# Altium footprint library LARS_409_DIODE.PCBLIB: 11 footprints
Each footprint in its own frame and in the unit in brackets; x right, y up, seen from the top. Pads: shape width x height; smd on the part's side, far side on the other; paste and mask are expansions set on the pad; w line width, h text height; cw(c..) or ccw(c..) is an arc to the next point about the centre after c.
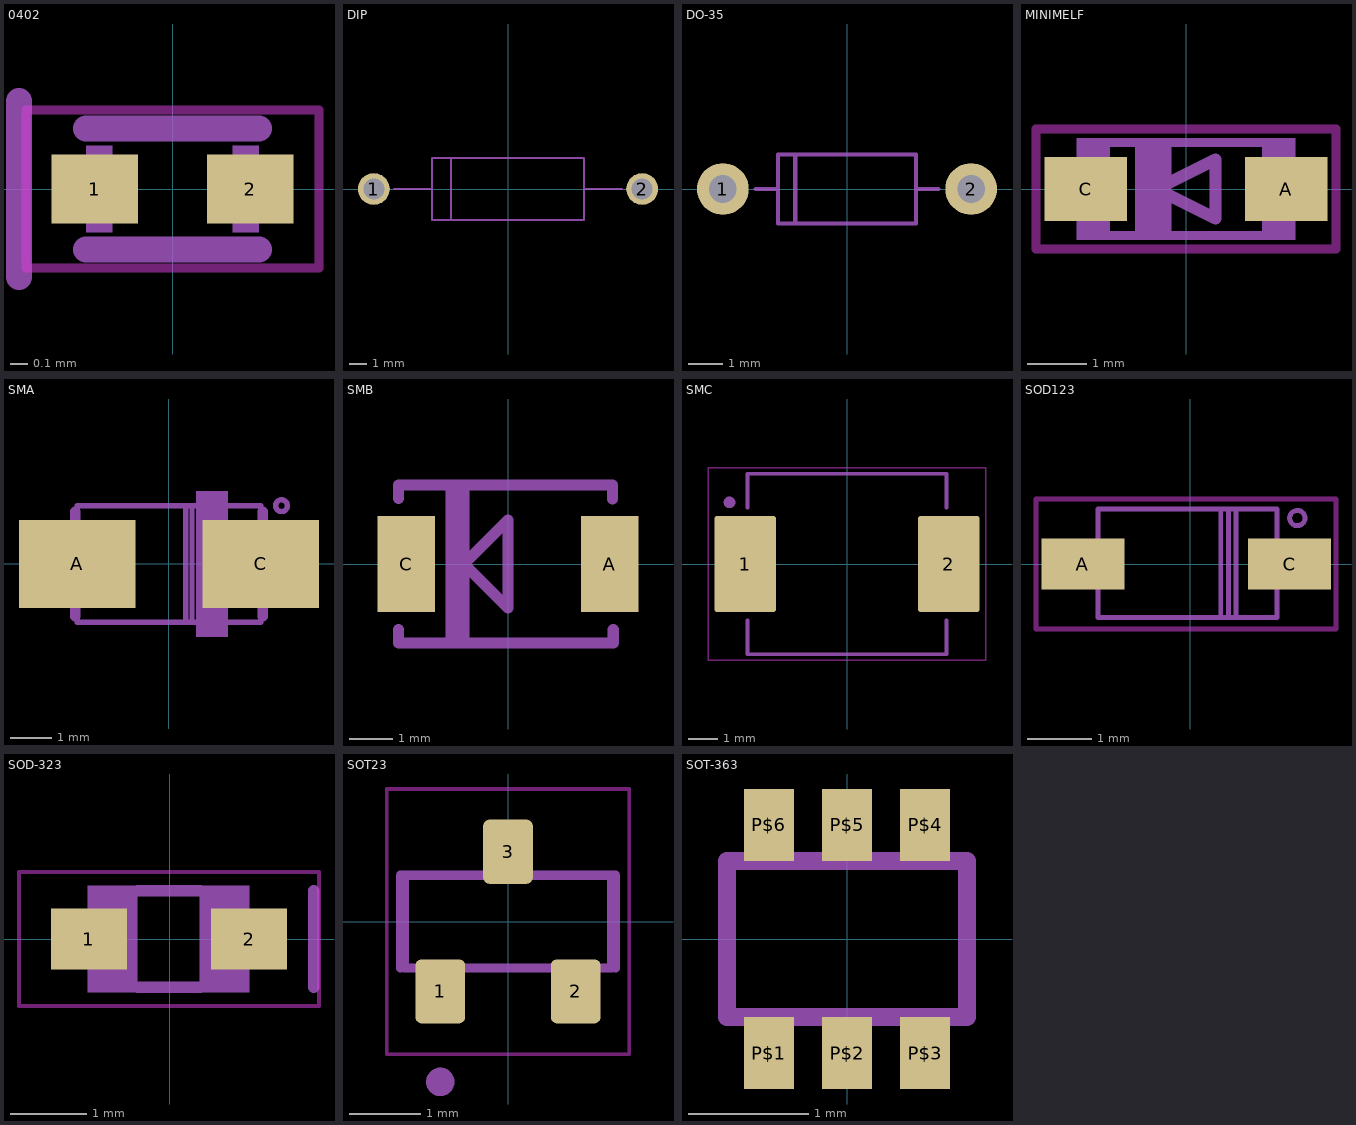
[diagram p0: the footprints below, top view; thin cyan lines are the x and y axes]

## 0402 [mm]
pads (2):
  rect 0.5x0.4 smd: 1(-0.45,0) 2(0.45,0)
Top keep-out:
  lines w0.051: -0.848,-0.458 0.848,-0.458 0.848,0.458 -0.848,0.458 -0.848,-0.458
tPlace:
  lines w0.152: -0.889,-0.508 -0.889,0.508 ; -0.5,-0.35 0.5,-0.35 ; -0.5,0.35 0.5,0.35
tGlue:
  region: -0.5,-0.25 -0.5,0.25 -0.35,0.25 -0.35,-0.25
  region: 0.35,-0.25 0.35,0.25 0.5,0.25 0.5,-0.25
3D body "0402.stp": height 0.25, standoff -0.25, extent -0.5,-0.25 0.5,0.25

## DIP [mm]
pads (2):
  round 1.8 hole 1.2: 1(-7.6,0) 2(7.6,0)
tDocu:
  lines w0.12: -4.3,-1.75 -4.3,1.75 4.3,1.75 4.3,-1.75 -4.3,-1.75
tPlace:
  lines w0.12: -6.446,0 -4.3,0 ; -3.225,-1.75 -3.225,1.75 ; 4.3,0 6.446,0 ; -4.3,-1.75 4.3,-1.75 4.3,1.75 -4.3,1.75 -4.3,-1.75

## DO-35 [mil]
pads (2):
  round 59.06 hole 31.5: 1(-141.73,0) 2(141.73,0)
tDocu:
  lines w4.72: -78.74,-39.37 -78.74,39.37 78.74,39.37 78.74,-39.37 -78.74,-39.37
tPlace:
  lines w4.72: -104.17,0 -78.74,0 ; -59.06,-39.37 -59.06,39.37 ; 78.74,0 104.17,0 ; -78.74,-39.37 78.74,-39.37 78.74,39.37 -78.74,39.37 -78.74,-39.37

## MINIMELF [mm]
pads (2):
  rect 1.4x1.08 smd: A(1.7,0) C(-1.7,0)
Top keep-out:
  lines w0.152: -2.54,-1.016 -2.54,1.016 2.54,1.016 2.54,-1.016 -2.54,-1.016
tDocu:
  region: 1.295,-0.864 1.295,0.864 1.854,0.864 1.854,-0.864
  region: -1.854,-0.864 -1.854,0.864 -1.295,0.864 -1.295,-0.864
  lines w0.152: -1.321,-0.787 1.321,-0.787 ; -1.321,0.787 1.321,0.787
tPlace:
  region: -0.864,-0.787 -0.864,0.787 -0.254,0.787 -0.254,-0.787
  lines w0.203: -0.5,0 0.5,-0.5 0.5,0.5 -0.5,0

## SMA [mm]
pads (2):
  rect 2.8x2.1 smd: A(-2.2,0) C(2.2,0)
tDocu:
  region: 2.38,-0.825 2.38,0.8 2.8,0.8 2.8,-0.825
  region: -2.8,-0.8 -2.8,0.8 -2.38,0.8 -2.38,-0.8
  region: 0.659,-1.75 0.659,1.75 1.409,1.75 1.409,-1.75
  lines w0.127: -2.2,-1.4 -2.2,1.4 ; 0.55,-1.35 0.55,1.4 ; 2.2,-1.4 2.2,1.4
  lines w0.254: -2.25,-1.25 -2.25,1.25 ; 2.25,-1.25 2.25,1.25
tPlace:
  circle w0.127: c2.7,1.4 r0.141
  lines w0.127: -2.2,-1.3 -2.2,-1.4 0.4,-1.4 ; -2.2,1.3 -2.2,1.4 ; -2.15,1.4 2.2,1.4 2.2,1.3 ; 0.3,1.4 0.4,1.4 0.4,-1.4 ; 2.2,-1.3 2.2,-1.4 0.4,-1.4

## SMB [mm]
pads (2):
  rect 1.3x2.2 smd: A(2.32,0) C(-2.32,0)
tPlace:
  lines w0.152: -1.2,-1.8 -1.2,1.8 ; -1.1,1.8 -1.1,0 -1,0
  lines w0.254: -2.5,-1.8 -2.5,-1.5 ; -2.5,1.5 -2.5,1.8 ; -2.48,-1.8 -1.3,-1.8 ; -2.48,1.8 -1.3,1.8 ; -1.1,0 -1.1,-1.8 ; 2.38,-1.8 -1,-1.8 ; 2.38,1.48 2.38,1.78 ; 2.38,1.8 -1,1.8 ; 2.4,-1.8 2.4,-1.5 ; -1.3,-1.8 -1.2,-1.8 -1.1,-1.8 ; -1.3,-1.8 -1.3,1.8 ; -1.3,1.8 -1.2,1.8 -1.1,1.8 -1,1.8 ; -1.1,-1.8 -1,-1.8 ; -1,-1.8 -1,0 ; -1,0 0,-1 0,1 -1,0 ; -1,0 -1,1.8

## SMC [mm]
pads (2):
  rrect10% 2.13x3.32 smd: 1(-3.51,0) 2(3.51,0)
Top keep-out:
  lines w0.05: -4.775,-3.31 -4.775,3.31 4.775,3.31 4.775,-3.31 -4.775,-3.31
tPlace:
  circle w0.2: c-4.05,2.125 r0.1
  lines w0.127: -3.427,-1.95 -3.427,-3.11 3.427,-3.11 3.427,-1.95 ; -3.427,1.95 -3.427,3.11 3.427,3.11 3.427,1.95

## SOD123 [mil]
pads (2):
  rect 51.18x31.5 smd: A(-66.14,0) C(61.42,0)
Top keep-out:
  lines w3: -95,-40 -95,40 90,40 90,-40 -95,-40
tPlace:
  circle w3: c66.14,28.35 r4.72
  lines w3: 18.9,33.07 18.9,-33.07 ; 23.62,33.07 23.62,-33.07 ; 28.35,33.07 28.35,-33.07 ; 18.9,-33.07 -56.69,-33.07 -56.69,33.86 53.54,33.86 53.54,-33.07 28.35,-33.07 ; 18.9,-33.07 23.62,-33.07 ; 23.62,-33.07 28.35,-33.07

## SOD-323 [mm]
pads (2):
  rect 1x0.8 smd: 1(-1.062,0) 2(1.042,0)
Top keep-out:
  lines w0.051: -1.983,-0.883 1.963,-0.883 1.963,0.883 -1.983,0.883 -1.983,-0.883
tDocu:
  region: 0.396,-0.699 0.396,0.702 1.046,0.702 1.046,-0.699
  region: -1.077,-0.699 -1.077,0.702 -0.427,0.702 -0.427,-0.699
tPlace:
  lines w0.152: -0.42,-0.635 0.4,-0.635 ; -0.42,0.635 0.4,0.635 ; 1.895,-0.635 1.895,0.635
3D body "sod323.step": height 1.16, standoff 0, extent -1.425,-0.75 1.425,0.75

## SOT23 [mm]
pads (3):
  rrect25% 0.7x0.9 smd: 1(-0.95,-0.98) 2(0.95,-0.98) 3(0,0.98)
Top keep-out:
  lines w0.05: -1.7,-1.86 -1.7,1.86 1.7,1.86 1.7,-1.86 -1.7,-1.86
tDocu:
  circle w0.2: c-0.95,-2.25 r0.1
  lines w0.127: -1.45,-0.65 -1.45,0.65 1.45,0.65 1.45,-0.65 -1.45,-0.65
tPlace:
  circle w0.2: c-0.95,-2.25 r0.1
  lines w0.127: -1.509,-0.65 -1.509,0.65 -0.61,0.65 ; 0.61,0.65 1.509,0.65 1.509,-0.65

## SOT-363 [mm]
pads (6):
  rect 0.42x0.6 smd: P$1(-0.65,-0.95) P$2(0,-0.95) P$3(0.65,-0.95) P$4(0.65,0.95) P$5(0,0.95) P$6(-0.65,0.95)
tPlace:
  lines w0.152: -1,-0.65 -1,0.65 1,0.65 1,-0.65 -1,-0.65